# Altium schematic symbol library MSPM0C1104SDGS20R.SchLib: 1 symbol
Pins are listed as number, name and electrical type; pins without a type are passive.

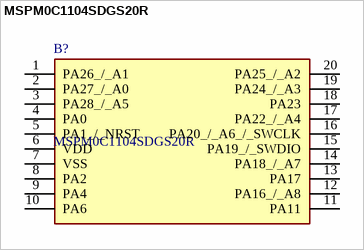
[diagram p0: symbol MSPM0C1104SDGS20R]

## MSPM0C1104SDGS20R
designator B?
ARM Microcontrollers - MCU 24MHz Arm Cortex-M0+ MCU with 16KB flash, 1KB SRAM, 12-bit ADC; Manufacturer_Name: Texas Instruments; Geometry.Height: 1.1mm; Mouser Part Number: 595-MSPM0C1104SDG20R; Mouser Price/Stock: https://www.mouser.co.uk/ProductDetail/Texas-Instruments/MSPM0C1104SDGS20R?qs=IKkN%2F947nfCiNls5oQjkDA%3D%3D; Manufacturer_Part_Number: MSPM0C1104SDGS20R; Datasheet Link: https://www.ti.com/lit/gpn/mspm0c1104
footprint SOP50P490X110-20N
pins: 1 PA26_/_A1, 2 PA27_/_A0, 3 PA28_/_A5, 4 PA0, 5 PA1_/_NRST, 6 VDD, 7 VSS, 8 PA2, 9 PA4, 10 PA6, 11 PA11, 12 PA16_/_A8, 13 PA17, 14 PA18_/_A7, 15 PA19_/_SWDIO, 16 PA20_/_A6_/_SWCLK, 17 PA22_/_A4, 18 PA23, 19 PA24_/_A3, 20 PA25_/_A2